# Altium footprint library RM42.PCBLIB: 1 footprints
Each footprint in its own frame and in the unit in brackets; x right, y up, seen from the top. Pads: shape width x height; smd on the part's side, far side on the other; paste and mask are expansions set on the pad; w line width, h text height; cw(c..) or ccw(c..) is an arc to the next point about the centre after c.
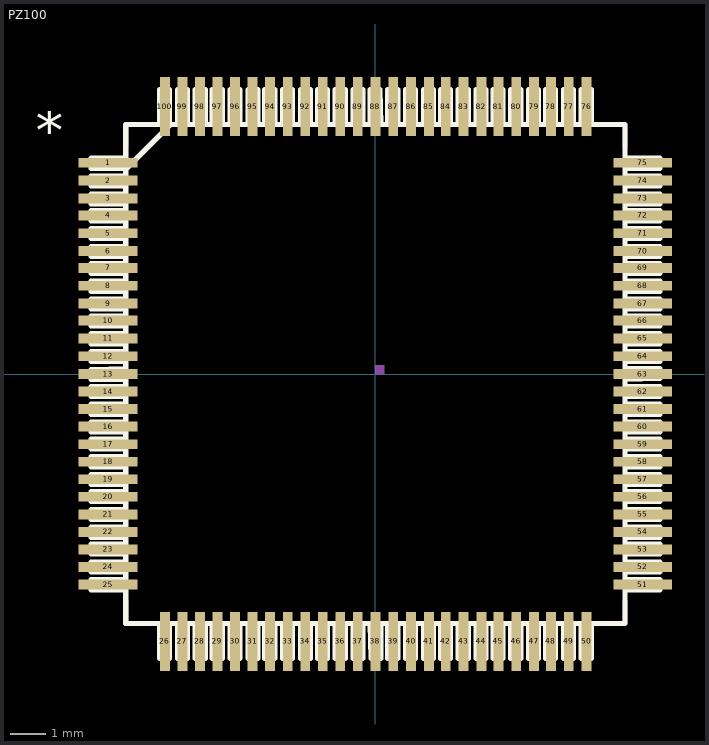
[diagram p0: the footprint, top view; thin cyan lines are the x and y axes]

## PZ100 [mil]
pads (100):
  rect 66x11 smd: 1(-300,237) 2(-300,217) 3(-300,197) 4(-300,178) 5(-300,158) 6(-300,138) 7(-300,119) 8(-300,99) 9(-300,79) 10(-300,60) 11(-300,40) 12(-300,20) 13(-300,0) 14(-300,-19.68) 15(-300,-39.37) 16(-300,-59.05) 17(-300,-78.74) 18(-300,-98.42) 19(-300,-118.11) 20(-300,-137.79) 21(-300,-157.48) 22(-300,-177.16) 23(-300,-196.85) 24(-300,-216.53) 25(-300,-236.22) 51(300,-236.22) 52(300,-216.53) 53(300,-196.85) 54(300,-177.16) 55(300,-157.48) 56(300,-137.79) 57(300,-118.11) 58(300,-98.42) 59(300,-78.74) 60(300,-59.05) 61(300,-39.37) 62(300,-19.68) 63(300,0) 64(300,20) 65(300,40) 66(300,60) 67(300,79) 68(300,99) 69(300,119) 70(300,138) 71(300,158) 72(300,178) 73(300,197) 74(300,217) 75(300,237)
  rect 11x66 smd: 26(-236.22,-300) 27(-216.53,-300) 28(-196.85,-300) 29(-177.16,-300) 30(-157.48,-300) 31(-137.79,-300) 32(-118.11,-300) 33(-98.42,-300) 34(-78.74,-300) 35(-59.05,-300) 36(-39.37,-300) 37(-19.68,-300) 38(0,-300) 39(20,-300) 40(40,-300) 41(60,-300) 42(79,-300) 43(99,-300) 44(119,-300) 45(138,-300) 46(158,-300) 47(178,-300) 48(197,-300) 49(217,-300) 50(237,-300) 76(237,300) 77(217,300) 78(197,300) 79(178,300) 80(158,300) 81(138,300) 82(119,300) 83(99,300) 84(79,300) 85(60,300) 86(40,300) 87(20,300) 88(0,300) 89(-19.68,300) 90(-39.37,300) 91(-59.05,300) 92(-78.74,300) 93(-98.42,300) 94(-118.11,300) 95(-137.79,300) 96(-157.48,300) 97(-177.16,300) 98(-196.85,300) 99(-216.53,300) 100(-236.22,300)
Top Overlay:
  drawing of 405 lines, arcs and shapes, not listed
  text "*" at -381,236 h77.5
Mechanical 16:
  region: 0,0 10,0 10,10 0,10
  region: 0,0 10,0 10,10 0,10
  region: 0,0 10,0 10,10 0,10
  region: 0,0 10,0 10,10 0,10
  region: 0,0 10,0 10,10 0,10
  region: 0,0 10,0 10,10 0,10
  region: 0,0 10,0 10,10 0,10
  region: 0,0 10,0 10,10 0,10
  region: 0,0 10,0 10,10 0,10
  region: 0,0 10,0 10,10 0,10
  lines w6: -280,-255 -280,-280 -255,-280 ; -280,255 -280,280 -255,280 ; 255,-280 280,-280 280,-255 ; 255,280 280,280 280,255
  text "*" at -381,236 h77.5